# EAGLE library part DLPA1000YFFR (library DLP_TI)
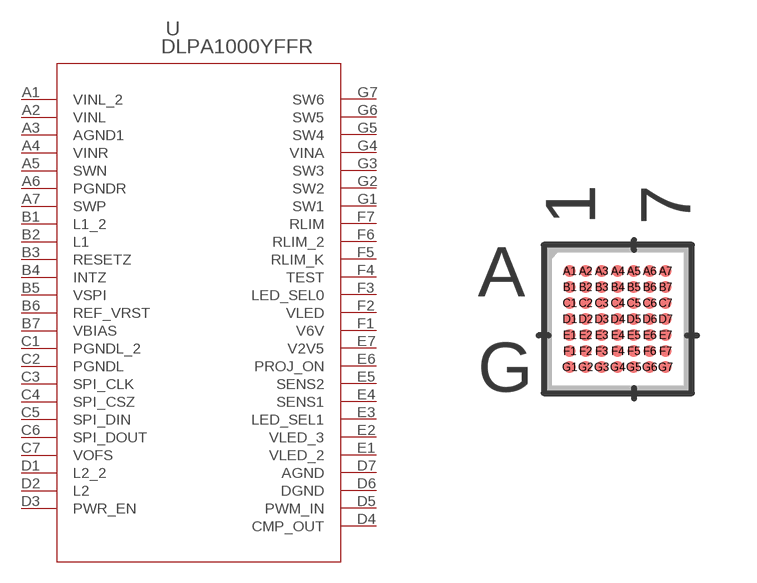
[diagram p1: symbol with the pads of YFF49_TEX; footprint YFF49_TEX]

Designator prefix U

## DLPA1000YFFR (BUILT_BY: EMA_Jessica; COPYRIGHT: Copyright (C) 2018 Accelerated Designs. All rights reserved; MANUFACTURER_PART_NUMBER: DLPA1000YFFR; SOURCELIBRARY: TI_2019-05-10; VENDOR: Texas Instruments)  [YFF49_TEX]
A1  VINL_2  in
A2  VINL  in
A3  AGND1  pwr
A4  VINR  in
A5  SWN  in
A6  PGNDR  pwr
A7  SWP  in
B1  L1_2  in
B2  L1  in
B3  RESETZ  out
B4  INTZ  out
B5  VSPI  pwr
B6  REF_VRST  in
B7  VBIAS  out
C1  PGNDL_2  pwr
C2  PGNDL  pwr
C3  SPI_CLK  in
C4  SPI_CSZ  in
C5  SPI_DIN  in
C6  SPI_DOUT  out
C7  VOFS  out
D1  L2_2  in
D2  L2  in
D3  PWR_EN  out
D4  CMP_OUT  out
D5  PWM_IN  in
D6  DGND  pwr
D7  AGND  pwr
E1  VLED_2  out
E2  VLED_3  out
E3  LED_SEL1  in
E4  SENS1  in
E5  SENS2  in
E6  PROJ_ON  in
E7  V2V5  out
F1  V6V  out
F2  VLED  out
F3  LED_SEL0  in
F4  TEST  in
F5  RLIM_K  in
F6  RLIM_2  out
F7  RLIM  out
G1  SW1  out
G2  SW2  out
G3  SW3  out
G4  VINA  in
G5  SW4  out
G6  SW5  out
G7  SW6  out

## Footprint YFF49_TEX (pad centres in mm)
smd 0.3 x 0.3: A1 -1.2,1.2; A2 -0.8,1.2; A3 -0.4,1.2; A4 0,1.2; A5 0.4,1.2; A6 0.8,1.2; A7 1.2,1.2; B1 -1.2,0.8; B2 -0.8,0.8; B3 -0.4,0.8; B4 0,0.8; B5 0.4,0.8; B6 0.8,0.8; B7 1.2,0.8; C1 -1.2,0.4; C2 -0.8,0.4; C3 -0.4,0.4; C4 0,0.4; C5 0.4,0.4; C6 0.8,0.4; C7 1.2,0.4; D1 -1.2,0; D2 -0.8,0; D3 -0.4,0; D4 0,0; D5 0.4,0; D6 0.8,0; D7 1.2,0; E1 -1.2,-0.4; E2 -0.8,-0.4; E3 -0.4,-0.4; E4 0,-0.4; E5 0.4,-0.4; E6 0.8,-0.4; E7 1.2,-0.4; F1 -1.2,-0.8; F2 -0.8,-0.8; F3 -0.4,-0.8; F4 0,-0.8; F5 0.4,-0.8; F6 0.8,-0.8; F7 1.2,-0.8; G1 -1.2,-1.2; G2 -0.8,-1.2; G3 -0.4,-1.2; G4 0,-1.2; G5 0.4,-1.2; G6 0.8,-1.2; G7 1.2,-1.2